# Altium footprint library WSDC2412D.PcbLib: 1 footprints
Each footprint in its own frame and in the unit in brackets; x right, y up, seen from the top. Pads: shape width x height; smd on the part's side, far side on the other; paste and mask are expansions set on the pad; w line width, h text height; cw(c..) or ccw(c..) is an arc to the next point about the centre after c.
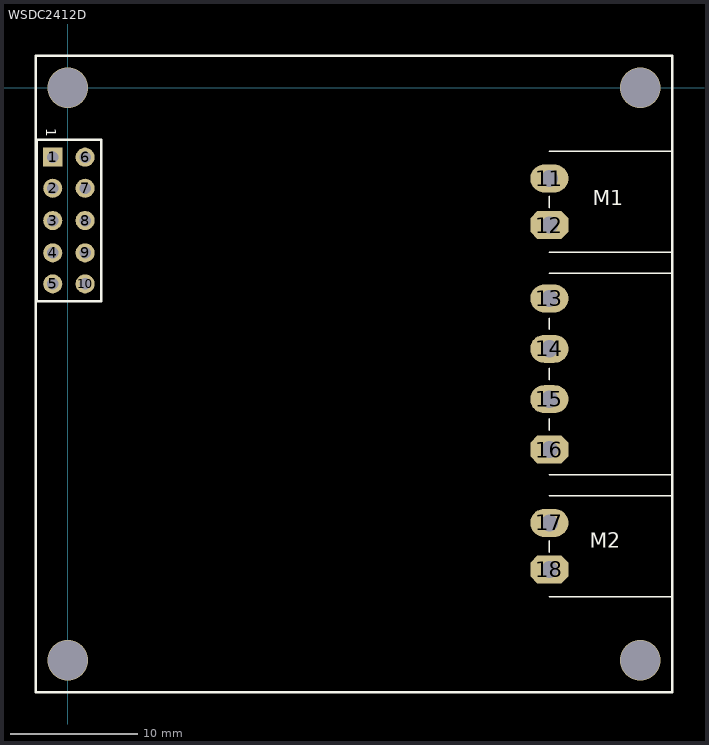
[diagram p0: the footprint, top view; thin cyan lines are the x and y axes]

## WSDC2412D [mm]
height 12.5
pads (18):
  rect 1.5x1.5 hole 0.9: 1(-1.169,-5.461)
  round 1.5 hole 0.9: 2(-1.169,-7.901) 3(-1.169,-10.441) 4(-1.169,-12.981) 5(-1.169,-15.421) 6(1.371,-5.461) 7(1.371,-7.901) 8(1.371,-10.441) 9(1.371,-12.981) 10(1.371,-15.421)
  oval 3x2.2 hole 1.35: 11(37.856,-7.14) 13(37.856,-16.56) 14(37.856,-20.52) 15(37.856,-24.48) 17(37.856,-34.2)
  oct 3x2.2 hole 1.35: 12(37.856,-10.8) 16(37.856,-28.44) 18(37.856,-37.86)
via 0,0 diameter 3.2 hole 3.1
via 0,-45 diameter 3.2 hole 3.1
via 45,-45 diameter 3.2 hole 3.1
via 45,0 diameter 3.2 hole 3.1
Top Overlay:
  lines w0.127: 37.856,-39.99 47.508,-39.99 47.508,-32.07 37.856,-32.07 ; 37.856,-36.486 37.856,-35.597 ; 37.856,-30.42 47.508,-30.42 47.508,-14.58 37.856,-14.58 ; 37.856,-26.916 37.856,-26.027 ; 37.856,-22.956 37.856,-22.067 ; 37.856,-18.996 37.856,-18.107 ; 37.856,-12.93 47.508,-12.93 47.508,-5.01 37.856,-5.01 ; 37.856,-9.426 37.856,-8.537
  lines w0.2: -2.439,-16.791 -2.439,-4.091 2.641,-4.091 2.641,-16.791 -2.439,-16.791
  lines w0.203: -2.5,-47.5 47.5,-47.5 47.5,2.5 -2.5,2.5 -2.5,-47.5
  text "1" at -1.677,-3.202 h0.76
  text "M1" at 41.285,-9.621 h2.03
  text "M2" at 41.031,-36.545 h2.03
3D body "MD_V31_20171117.step": height 8.4, standoff -4.5, extent -2.5,-47.5 47.558,2.5